# EAGLE library part PGA206P (library burr-brown)
High-Speed Programmable Gain Instrumentation Amplifier
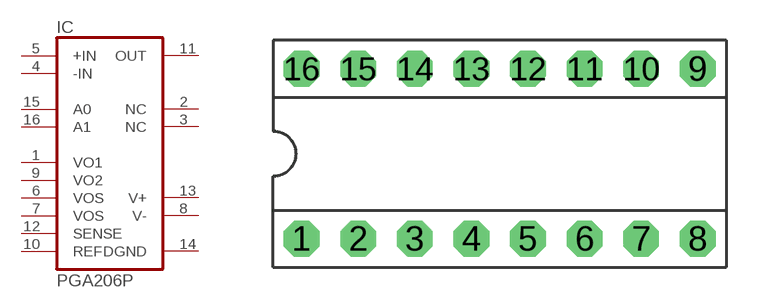
[diagram p173: symbol with the pads of DIP-16; footprint DIP-16]

Designator prefix IC

## PGA206P  [DIP-16]
1  VO1  pas
2  NC  nc
3  NC  nc
4  -IN  in
5  +IN  in
6  VOS  pas
7  VOS  pas
8  V-  pwr
9  VO2  pas
10  REF  pas
11  OUT  out
12  SENSE  pas
13  V+  pwr
14  DGND  pwr
15  A0  in
16  A1  in

## Footprint DIP-16 (pad centres in mm)
drill 0.813 pad 1.6 octagon: 1 -8.89,-3.81; 2 -6.35,-3.81; 3 -3.81,-3.81; 4 -1.27,-3.81; 5 1.27,-3.81; 6 3.81,-3.81; 7 6.35,-3.81; 8 8.89,-3.81; 9 8.89,3.81; 10 6.35,3.81; 11 3.81,3.81; 12 1.27,3.81; 13 -1.27,3.81; 14 -3.81,3.81; 15 -6.35,3.81; 16 -8.89,3.81